# EAGLE library part ADXRS290 (library Sensors)
Ultralow Noise, Dual-Axis MEMS Gyroscope. The ADXRS290 is a high performance MEMS pitch and roll (dual-axis in-plane) angular rate sensor (gyroscope) designed for use in stabilization applications.
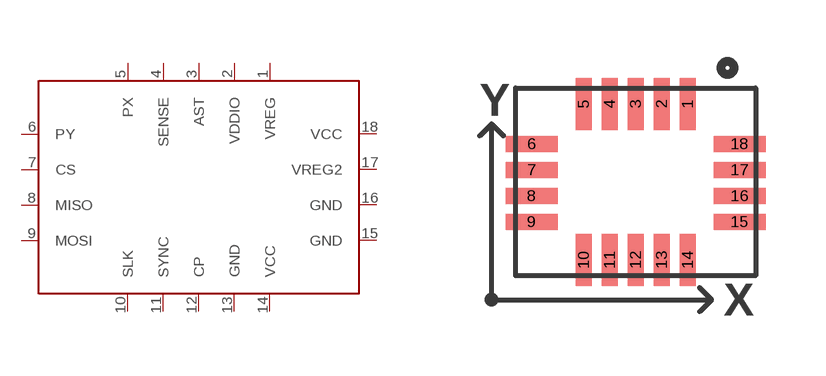
[diagram p0: symbol with the pads of LGA_CAV; footprint LGA_CAV]

Designator prefix GYRO

## ADXRS290  [LGA_CAV]
1  VREG
2  VDDIO
3  AST
4  SENSE
5  PX
6  PY
7  CS
8  MISO
9  MOSI
10  SLK
11  SYNC
12  CP
13  GND
14  VCC
15  GND
16  GND
17  VREG2
18  VCC

## Footprint LGA_CAV (pad centres in mm)
smd 0.4 x 1.3: 1 1.2,1.9; 2 0.55,1.9; 3 -0.1,1.9; 4 -0.75,1.9; 5 -1.4,1.9; 10 -1.4,-2; 11 -0.75,-2; 12 -0.1,-2; 13 0.55,-2; 14 1.2,-2
smd 1.3 x 0.4: 6 -2.7,0.9; 7 -2.7,0.25; 8 -2.7,-0.4; 9 -2.7,-1.05; 15 2.5,-1.05; 16 2.5,-0.4; 17 2.5,0.25; 18 2.5,0.9